# EAGLE library part MAX3051 (library balto)
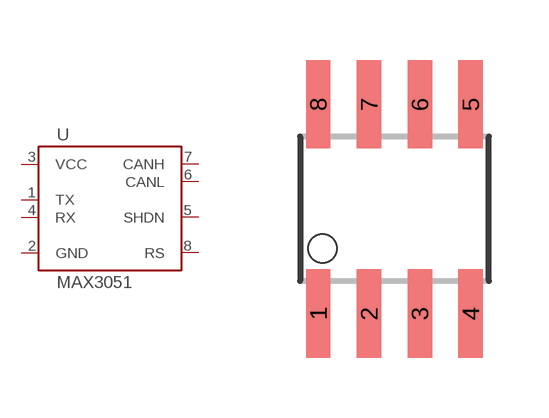
[diagram p25: symbol with the pads of SO08; footprint SO08]

Designator prefix U

## MAX3051  [SO08]
1  TX
2  GND
3  VCC
4  RX
5  SHDN
6  CANL
7  CANH
8  RS

## Footprint SO08 (pad centres in mm)
Small Outline Package
smd 0.61 x 2.21: 1 -1.905,-2.616; 2 -0.635,-2.616; 3 0.635,-2.616; 4 1.905,-2.616; 5 1.905,2.616; 6 0.635,2.616; 7 -0.635,2.616; 8 -1.905,2.616